# EAGLE library part TP4056_COMPO (library 04 Fusion360 TP4056)
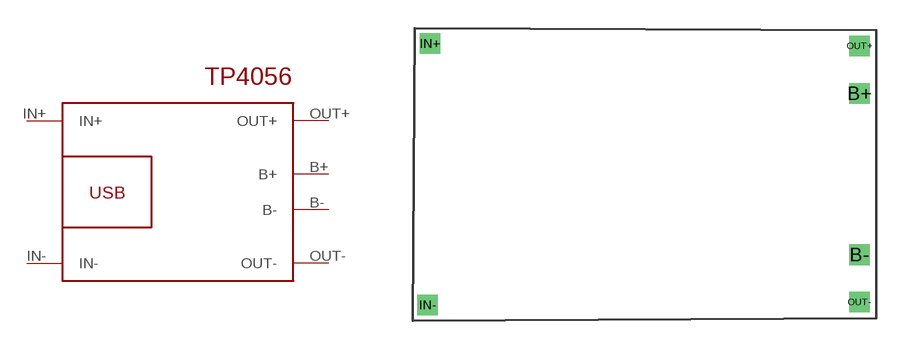
[diagram p0: symbol with the pads of TP4056_FOOT; footprint TP4056_FOOT]

Designator prefix -

## TP4056_COMPO  [TP4056_FOOT]
B+  B+
B-  B-
IN+  IN+
IN-  IN-
OUT+  OUT+
OUT-  OUT-

## Footprint TP4056_FOOT (pad centres in mm)
drill 0.6 square: B+ 23,-2.667; B- 23,-11.303; IN+ 0,0; IN- -0.127,-13.995; OUT+ 23,-0.127; OUT- 23,-13.843